# Altium schematic symbol library HCF40106.SchLib: 1 symbol
Pins are listed as number, name and electrical type; pins without a type are passive.

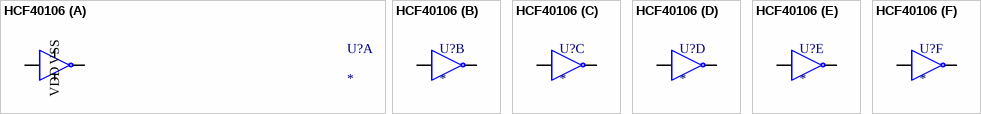
[diagram p0: symbol HCF40106]

## HCF40106
designator U?
part A pins: 1 A, 2 G, 7 VSS, 14 VDD
part B pins: 3 B, 4 H
part C pins: 5 C, 6 I
part D pins: 8 J, 9 D
part E pins: 10 K, 11 E
part F pins: 12 L, 13 F